# Altium footprint library PcbLib1.PcbLib: 25 footprints (part 2 of 2)
Each footprint in its own frame and in the unit in brackets; x right, y up, seen from the top. Pads: shape width x height; smd on the part's side, far side on the other; paste and mask are expansions set on the pad; w line width, h text height; cw(c..) or ccw(c..) is an arc to the next point about the centre after c.
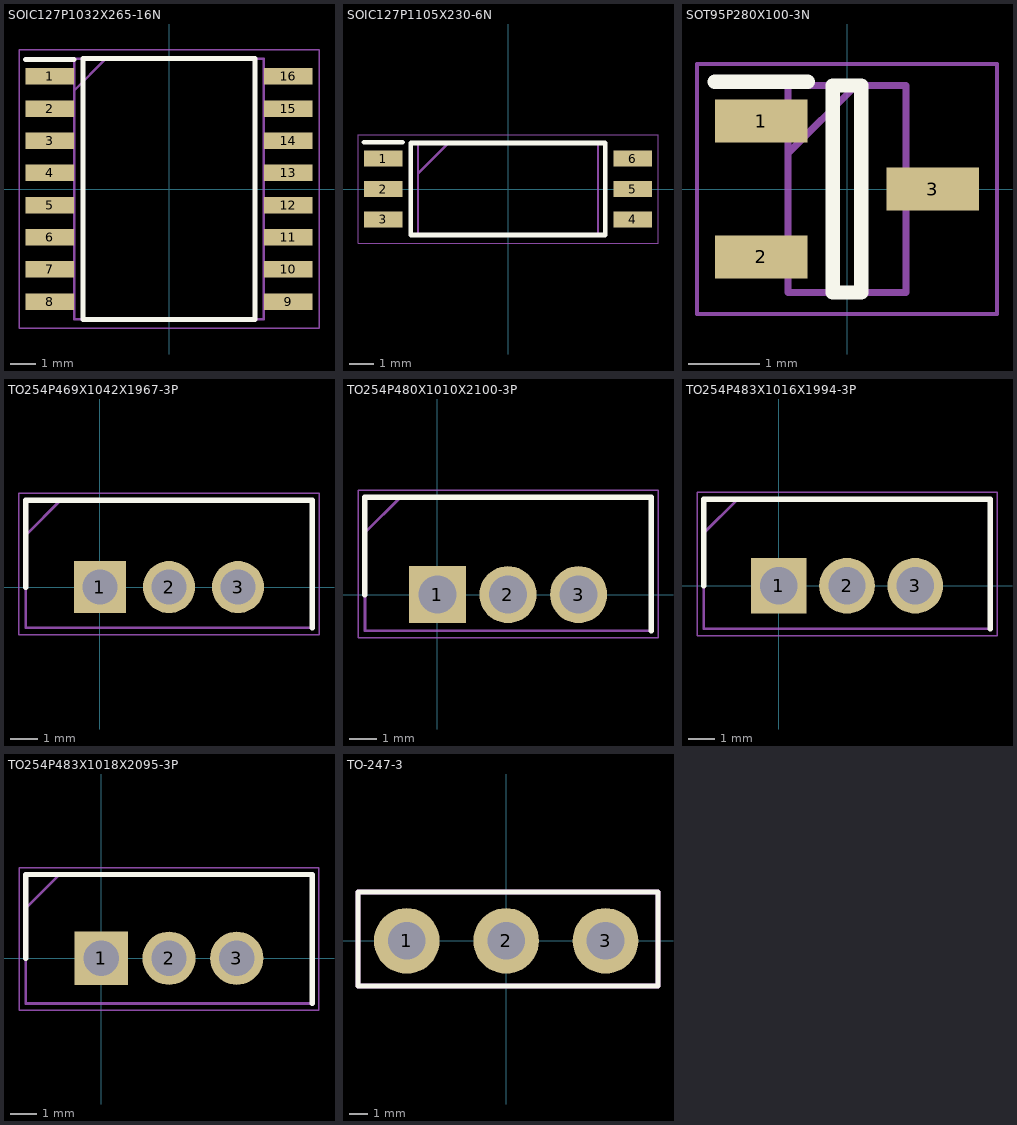
[diagram p1: the footprints below, top view; thin cyan lines are the x and y axes]

## SOIC127P1032X265-16N [mm]
pads (16):
  rect 1.925x0.65 smd: 1(-4.712,4.445) 2(-4.712,3.175) 3(-4.712,1.905) 4(-4.712,0.635) 5(-4.712,-0.635) 6(-4.712,-1.905) 7(-4.712,-3.175) 8(-4.712,-4.445) 9(4.712,-4.445) 10(4.712,-3.175) 11(4.712,-1.905) 12(4.712,-0.635) 13(4.712,0.635) 14(4.712,1.905) 15(4.712,3.175) 16(4.712,4.445)
Top Overlay:
  lines w0.2: -5.675,5.12 -3.75,5.12 ; -3.4,-5.15 3.4,-5.15 3.4,5.15 -3.4,5.15 -3.4,-5.15
Mechanical 13:
  lines w0.1: -3.75,3.88 -2.48,5.15 ; -3.75,-5.15 3.75,-5.15 3.75,5.15 -3.75,5.15 -3.75,-5.15
Mechanical 15:
  lines w0.05: -5.925,-5.5 5.925,-5.5 5.925,5.5 -5.925,5.5 -5.925,-5.5
3D body "IR2110STRPBF.stp": height 2.65, standoff 0, extent -5.162,-5.15 5.162,5.15

## SOIC127P1105X230-6N [mm]
pads (6):
  rect 1.6x0.65 smd: 1(-5.2,1.27) 2(-5.2,0) 3(-5.2,-1.27) 4(5.2,-1.27) 5(5.2,0) 6(5.2,1.27)
Top Overlay:
  lines w0.2: -6,1.945 -4.4,1.945 ; -4.05,-1.92 4.05,-1.92 4.05,1.92 -4.05,1.92 -4.05,-1.92
Mechanical 13:
  lines w0.1: -3.75,0.65 -2.48,1.92 ; -3.75,-1.92 3.75,-1.92 3.75,1.92 -3.75,1.92 -3.75,-1.92
Mechanical 15:
  lines w0.05: -6.25,-2.27 6.25,-2.27 6.25,2.27 -6.25,2.27 -6.25,-2.27
3D body "TLP5754H_D4TP4,E.stp": height 2.3, standoff 0, extent -5.525,-1.92 5.525,1.92

## SOT95P280X100-3N [mm]
pads (3):
  rect 1.3x0.6 smd: 1(-1.2,0.95) 2(-1.2,-0.95) 3(1.2,0)
Top Overlay:
  lines w0.2: -1.85,1.5 -0.55,1.5 ; -0.2,-1.45 0.2,-1.45 0.2,1.45 -0.2,1.45 -0.2,-1.45
Mechanical 13:
  lines w0.1: -0.825,0.5 0.125,1.45 ; -0.825,-1.45 0.825,-1.45 0.825,1.45 -0.825,1.45 -0.825,-1.45
Mechanical 15:
  lines w0.05: -2.1,-1.75 2.1,-1.75 2.1,1.75 -2.1,1.75 -2.1,-1.75
3D body "2SB1707TL.stp": height 1, standoff 0, extent -1.4,-1.45 1.4,1.45

## TO254P469X1042X1967-3P [mm]
pads (3):
  rect 1.92x1.92 hole 1.28: 1(0,0)
  round 1.92 hole 1.28: 2(2.54,0) 3(5.08,0)
Top Overlay:
  lines w0.2: -2.73,0 -2.73,3.195 7.81,3.195 7.81,-1.495
Mechanical 13:
  lines w0.1: -2.73,1.925 -1.46,3.195 ; -2.73,-1.495 -2.73,3.195 7.81,3.195 7.81,-1.495 -2.73,-1.495
Mechanical 15:
  lines w0.05: -2.98,-1.745 -2.98,3.445 8.06,3.445 8.06,-1.745 -2.98,-1.745
3D body "IRF9540NPBF.stp": height 18.84, standoff -17.51, extent -2.668,-1.495 7.748,3.195

## TO254P480X1010X2100-3P [mm]
pads (3):
  rect 2.055x2.055 hole 1.37: 1(0,0)
  round 2.055 hole 1.37: 2(2.54,0) 3(5.08,0)
Top Overlay:
  lines w0.2: -2.61,0 -2.61,3.5 7.69,3.5 7.69,-1.3
Mechanical 13:
  lines w0.1: -2.61,2.23 -1.34,3.5 ; -2.61,-1.3 -2.61,3.5 7.69,3.5 7.69,-1.3 -2.61,-1.3
Mechanical 15:
  lines w0.05: -2.86,-1.55 -2.86,3.75 7.94,3.75 7.94,-1.55 -2.86,-1.55
3D body "RB228T150NZC9.stp": height 20.1, standoff -16, extent -2.51,-1.3 7.59,3.5

## TO254P483X1016X1994-3P [mm]
pads (3):
  rect 2.07x2.07 hole 1.38: 1(0,0)
  round 2.07 hole 1.38: 2(2.54,0) 3(5.08,0)
Top Overlay:
  lines w0.2: -2.795,0 -2.795,3.225 7.875,3.225 7.875,-1.605
Mechanical 13:
  lines w0.1: -2.795,1.955 -1.525,3.225 ; -2.795,-1.605 -2.795,3.225 7.875,3.225 7.875,-1.605 -2.795,-1.605
Mechanical 15:
  lines w0.05: -3.045,-1.855 -3.045,3.475 8.125,3.475 8.125,-1.855 -3.045,-1.855
3D body "IRFZ48NPBF.stp": height 18.86, standoff -17.4, extent -2.54,-1.605 7.62,3.225

## TO254P483X1018X2095-3P [mm]
pads (3):
  rect 1.995x1.995 hole 1.33: 1(0,0)
  round 1.995 hole 1.33: 2(2.54,0) 3(5.08,0)
Top Overlay:
  lines w0.2: -2.83,0 -2.83,3.135 7.91,3.135 7.91,-1.695
Mechanical 13:
  lines w0.1: -2.83,1.865 -1.56,3.135 ; -2.83,-1.695 -2.83,3.135 7.91,3.135 7.91,-1.695 -2.83,-1.695
Mechanical 15:
  lines w0.05: -3.08,-1.945 -3.08,3.385 8.16,3.385 8.16,-1.945 -3.08,-1.945
3D body "IRFI4110GPBF.stp": height 19.35, standoff -18.46, extent -2.552,-1.695 7.632,3.135

## TO-247-3 [mm]
pads (3):
  round 3.5 hole 2: 1(-5.3,0) 2(0,0) 3(5.3,0)
Top Overlay:
  lines w0.254: -7.9,-2.4 -7.9,2.6 8.1,2.6 8.1,-2.4 -7.9,-2.4
Mechanical 1:
  lines w0.254: -7.9,-2.4 -7.9,2.6 8.1,2.6 8.1,-2.4 -7.9,-2.4
3D body "User Library-PG-TO247-3-21.step": height 25.28, standoff -15.85, extent -7.85,-2.5 8.05,2.6

## TP [mm] "Testing points"